# Altium footprint library CRSwitch.PcbLib: 1 footprints
Each footprint in its own frame and in the unit in brackets; x right, y up, seen from the top. Pads: shape width x height; smd on the part's side, far side on the other; paste and mask are expansions set on the pad; w line width, h text height; cw(c..) or ccw(c..) is an arc to the next point about the centre after c.
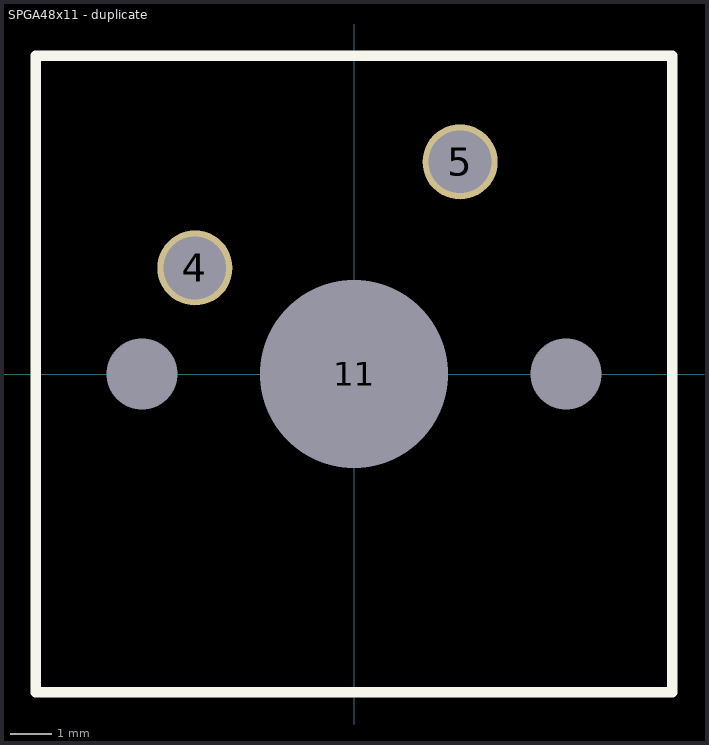
[diagram p0: the footprint, top view; thin cyan lines are the x and y axes]

## SPGA48x11 - duplicate [mm]
pads (5):
  round 1.8 hole 1.5: 4(-3.81,2.54) 5(2.54,5.08)
  round 1.27 hole 4.5: 11(0,0)
  round 1.27 hole 1.7: ""(-5.08,0)
  oval 0.85x1.27 hole 1.7: ""(5.08,0)
Top Overlay:
  lines w0.254: -7.62,-7.62 -7.62,7.62 7.62,7.62 7.62,-7.62 -7.62,-7.62
3D body "MX1A-E1NW--3DModel-STEP-56544.STEP": height 15.24, standoff -3.3, extent -7.747,-8.097 7.747,8.097